# EAGLE library part ACS711 (library stromplatine)
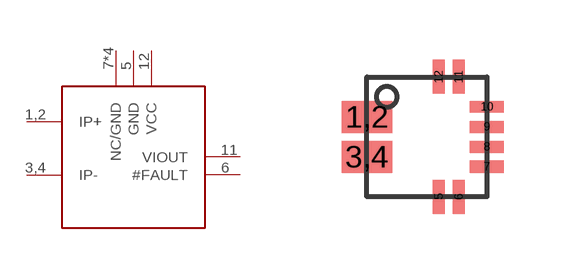
[diagram p1: symbol with the pads of QFN-12-EX; footprint QFN-12-EX]

Designator prefix -

## ACS711  [QFN-12-EX]
1,2  IP+
3,4  IP-
5  GND
6  #FAULT
7  NC/GND
8  NC/GND
9  NC/GND
10  NC/GND
11  VIOUT
12  VCC

## Footprint QFN-12-EX (pad centres in mm)
smd 1.27 x 0.8: 1,2 -1.5,0.5; 3,4 -1.5,-0.5
smd 0.3 x 0.85: 5 0.3,-1.5; 6 0.8,-1.5; 11 0.8,1.5; 12 0.3,1.5
smd 0.85 x 0.3: 7 1.5,-0.75; 8 1.5,-0.25; 9 1.5,0.25; 10 1.5,0.75